# Altium footprint library Crystals.PcbLib: 8 footprints
Each footprint in its own frame and in the unit in brackets; x right, y up, seen from the top. Pads: shape width x height; smd on the part's side, far side on the other; paste and mask are expansions set on the pad; w line width, h text height; cw(c..) or ccw(c..) is an arc to the next point about the centre after c.
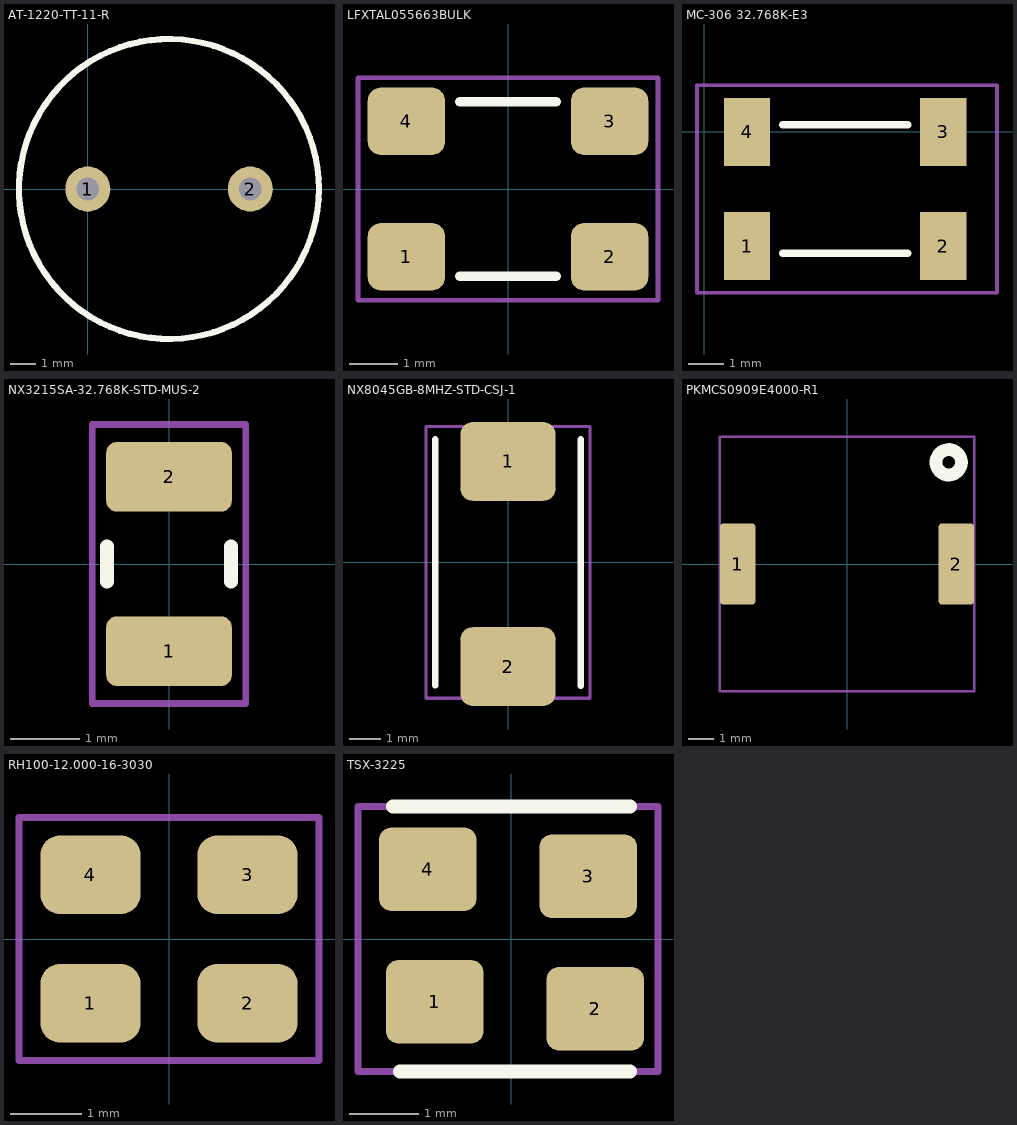
[diagram p0: the footprints below, top view; thin cyan lines are the x and y axes]

## AT-1220-TT-11-R [mm] "Buzzer"
height 5
pads (2):
  round 1.8 hole 0.9: 1(0,0) 2(6.5,0)
Top Overlay:
  circle w0.25: c3.25,0 r6
3D body: height 5.5, standoff 0, extent -2.75,-6.008 9.25,5.989

## LFXTAL055663BULK [mm]
height 2.4
pads (4):
  rrect40% 1.6x1.4 smd paste-0.05: 1(-2.1,-1.4) 2(2.1,-1.4) 3(2.1,1.4) 4(-2.1,1.4)
Top Overlay:
  lines w0.2: -1,-1.8 1,-1.8 ; -1,1.8 1,1.8
Mechanical 15:
  lines w0.1: -3.1,-2.3 -3.1,2.3 3.1,2.3 3.1,-2.3 -3.1,-2.3
Assembly:
  lines w0.1: -3.1,-2.3 3.1,-2.3 3.1,2.3 -3.1,2.3 -3.1,-2.3
  text ".Designator" at -2.2,-0.3 h1.1
3D body: height 1, standoff 0.05, extent -2.5,-1.6 2.5,1.6

## MC-306 32.768K-E3 [mm]
height 2.4
pads (4):
  rect 1.3x1.9 smd: 1(1.2,-3.2) 2(6.7,-3.2) 3(6.7,0) 4(1.2,0)
Top Overlay:
  lines w0.2: 2.2,-3.4 5.7,-3.4 ; 2.2,0.2 5.7,0.2
Mechanical 15:
  lines w0.1: -0.2,-4.5 8.2,-4.5 8.2,1.3 -0.2,1.3 -0.2,-4.5
Assembly:
  lines w0.1: -0.2,-4.5 -0.2,1.3 8.2,1.3 8.2,-4.5 -0.2,-4.5
  text ".Designator" at 1.8,-1.9 h1.1
3D body: height 2.39, standoff 0.05, extent 0,-3.2 8,0

## NX3215SA-32.768K-STD-MUS-2 [mm]
height 0.8
pads (2):
  rrect30% 1.8x1 smd paste-99: 1(0,-1.25) 2(0,1.25)
Top Overlay:
  lines w0.2: -0.889,-0.254 -0.889,0.254 ; 0.889,-0.254 0.889,0.254
Top Paste:
  region: 0.875,-0.9 0.875,-1.6 0.75,-1.725 -0.75,-1.725 -0.875,-1.6 -0.875,-0.9 -0.75,-0.775 0,-1.05 0.75,-0.775
  region: -0.875,0.9 -0.875,1.6 -0.75,1.725 0.75,1.725 0.875,1.6 0.875,0.9 0.75,0.775 0,1.05 -0.75,0.775
Mechanical 15:
  lines w0.1: -1.1,-2 1.1,-2 1.1,2 -1.1,2 -1.1,-2
Assembly:
  lines w0.1: -1.1,-2 -1.1,2 1.1,2 1.1,-2 -1.1,-2
  text ".Designator" at 0.3,-1.9 h1.1
3D body: height 0.8, standoff 0.05, extent -0.8,-1.6 0.8,1.6

## NX8045GB-8MHZ-STD-CSJ-1 [mm]
height 1
pads (2):
  rrect30% 3x2.5 smd paste-0.08: 1(0,3.2) 2(0,-3.3)
Top Overlay:
  lines w0.2: -2.3,-3.9 -2.3,3.9 ; 2.3,-3.912 2.3,3.9
Mechanical 15:
  lines w0.1: -2.6,-4.3 2.6,-4.3 2.6,4.3 -2.6,4.3 -2.6,-4.3
Assembly:
  lines w0.1: -2.6,-4.3 -2.6,4.3 2.6,4.3 2.6,-4.3 -2.6,-4.3
  text ".Designator" at 0.3,-2.1 h1.1
3D body: height 1.8, standoff 0.05, extent -2.3,-4 2.3,4

## PKMCS0909E4000-R1 [mm]
pads (2):
  rrect20% 1.4x3.2 smd paste-0.04: 1(-4.3,0) 2(4.3,0)
Top Overlay:
  circle w0.5: c4,4 r0.5
Assembly:
  circle w0.1: c4.05,4.02 r0.5
  lines w0.1: -5,-5 5,-5 5,5 -5,5 -5,-5
  text ".Designator" at 0.3,-2.1 h1.1
3D body: height 1.9, standoff 0, extent -4.5,-4.5 4.5,4.5

## RH100-12.000-16-3030 [mm] "3.2mm x 2.5mm crystal"
height 0.7
pads (4):
  rrect50% 1.4x1.1 smd paste-0.1: 1(-1.1,-0.9) 2(1.1,-0.9) 3(1.1,0.9) 4(-1.1,0.9)
Mechanical 15:
  lines w0.1: -2.1,-1.7 2.1,-1.7 2.1,1.7 -2.1,1.7 -2.1,-1.7
Assembly:
  lines w0.1: -2.1,-1.7 -2.1,1.7 2.1,1.7 2.1,-1.7 -2.1,-1.7
  text ".Designator" at -1.9,-0.3 h1.1
3D body: height 1, standoff 0.05, extent -1.6,-1.25 1.6,1.25

## TSX-3225 [mm]
height 2
pads (4):
  rrect30% 1.4x1.2 smd paste-0.05: 1(-1.1,-0.9) 2(1.2,-1) 3(1.1,0.9) 4(-1.2,1)
Top Overlay:
  lines w0.2: -1.7,1.9 1.7,1.9 ; -1.6,-1.9 1.7,-1.9
Mechanical 15:
  lines w0.1: -2.2,-1.9 2.1,-1.9 2.1,1.9 -2.2,1.9 -2.2,-1.9
Assembly:
  lines w0.1: -2.2,-1.9 -2.2,1.9 2.1,1.9 2.1,-1.9 -2.2,-1.9
  text ".Designator" at -2.2,-0.3 h1.1
3D body: height 0.6, standoff 0.05, extent -1.6,-1.25 1.6,1.25